# Altium schematic symbol library SCH - BATTERY - DOUBLE.SCHLIB: 1 symbol
Pins are listed as number, name and electrical type; pins without a type are passive.

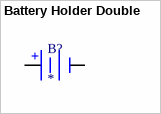
[diagram p0: symbol Battery Holder Double]

## Battery Holder Double
designator B?
pins: 1 +, 2 -